# EAGLE library part ATSAMD21 (library maholli)
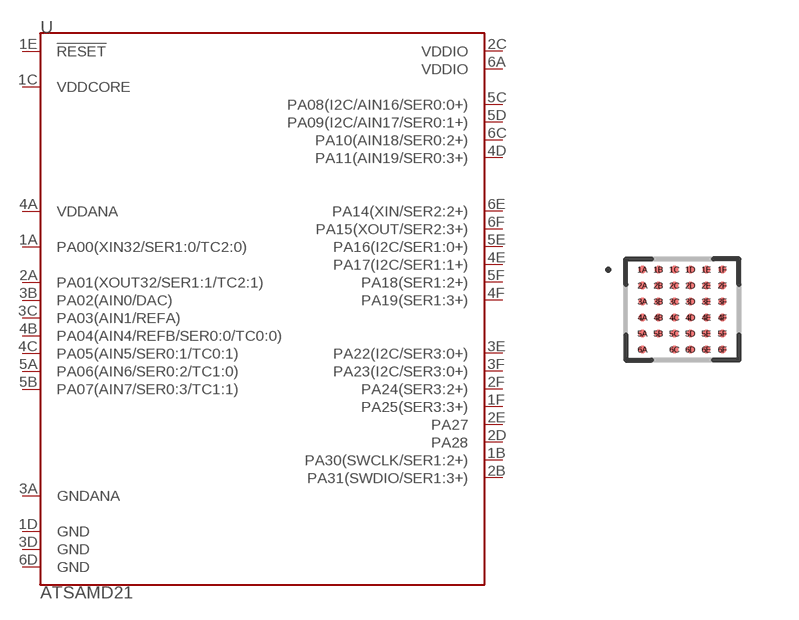
[diagram p16: symbol with the pads of BGA36C40P6X6_252X282X48; footprint BGA36C40P6X6_252X282X48]

Designator prefix U

## ATSAMD2135-WLCSP  [BGA36C40P6X6_252X282X48]
1A  PA00(XIN32/SER1:0/TC2:0)
1B  PA30(SWCLK/SER1:2+)
1C  VDDCORE
1D  GND
1E  !RESET!
1F  PA25(SER3:3+)
2A  PA01(XOUT32/SER1:1/TC2:1)
2B  PA31(SWDIO/SER1:3+)
2C  VDDIO
2D  PA28
2E  PA27
2F  PA24(SER3:2+)
3A  GNDANA
3B  PA02(AIN0/DAC)
3C  PA03(AIN1/REFA)
3D  GND
3E  PA22(I2C/SER3:0+)
3F  PA23(I2C/SER3:0+)
4A  VDDANA
4B  PA04(AIN4/REFB/SER0:0/TC0:0)
4C  PA05(AIN5/SER0:1/TC0:1)
4D  PA11(AIN19/SER0:3+)
4E  PA17(I2C/SER1:1+)
4F  PA19(SER1:3+)
5A  PA06(AIN6/SER0:2/TC1:0)
5B  PA07(AIN7/SER0:3/TC1:1)
5C  PA08(I2C/AIN16/SER0:0+)
5D  PA09(I2C/AIN17/SER0:1+)
5E  PA16(I2C/SER1:0+)
5F  PA18(SER1:2+)
6A  VDDIO
6C  PA10(AIN18/SER0:2+)
6D  GND
6E  PA14(XIN/SER2:2+)
6F  PA15(XOUT/SER2:3+)

## Footprint BGA36C40P6X6_252X282X48 (pad centres in mm)
36-BGA, collapsing, 0.4 mm pitch, 2.53 X 2.82 X 0.483 mm body 36-pin collapsing BGA package with 0.4 mm col pitch and 0.4 mm row pitch with body size 2.53 X 2.82 X 0.483 mm
smd 0.2 x 0.2: 1A -1,1; 1B -0.6,1; 1C -0.2,1; 1D 0.2,1; 1E 0.6,1; 1F 1,1; 2A -1,0.6; 2B -0.6,0.6; 2C -0.2,0.6; 2D 0.2,0.6; 2E 0.6,0.6; 2F 1,0.6; 3A -1,0.2; 3B -0.6,0.2; 3C -0.2,0.2; 3D 0.2,0.2; 3E 0.6,0.2; 3F 1,0.2; 4A -1,-0.2; 4B -0.6,-0.2; 4C -0.2,-0.2; 4D 0.2,-0.2; 4E 0.6,-0.2; 4F 1,-0.2; 5A -1,-0.6; 5B -0.6,-0.6; 5C -0.2,-0.6; 5D 0.2,-0.6; 5E 0.6,-0.6; 5F 1,-0.6; 6A -1,-1; 6C -0.2,-1; 6D 0.2,-1; 6E 0.6,-1; 6F 1,-1